# Altium schematic symbol library OSHW_LuxonisMaster_20201223.SchLib: 185 symbols (part 9 of 10)
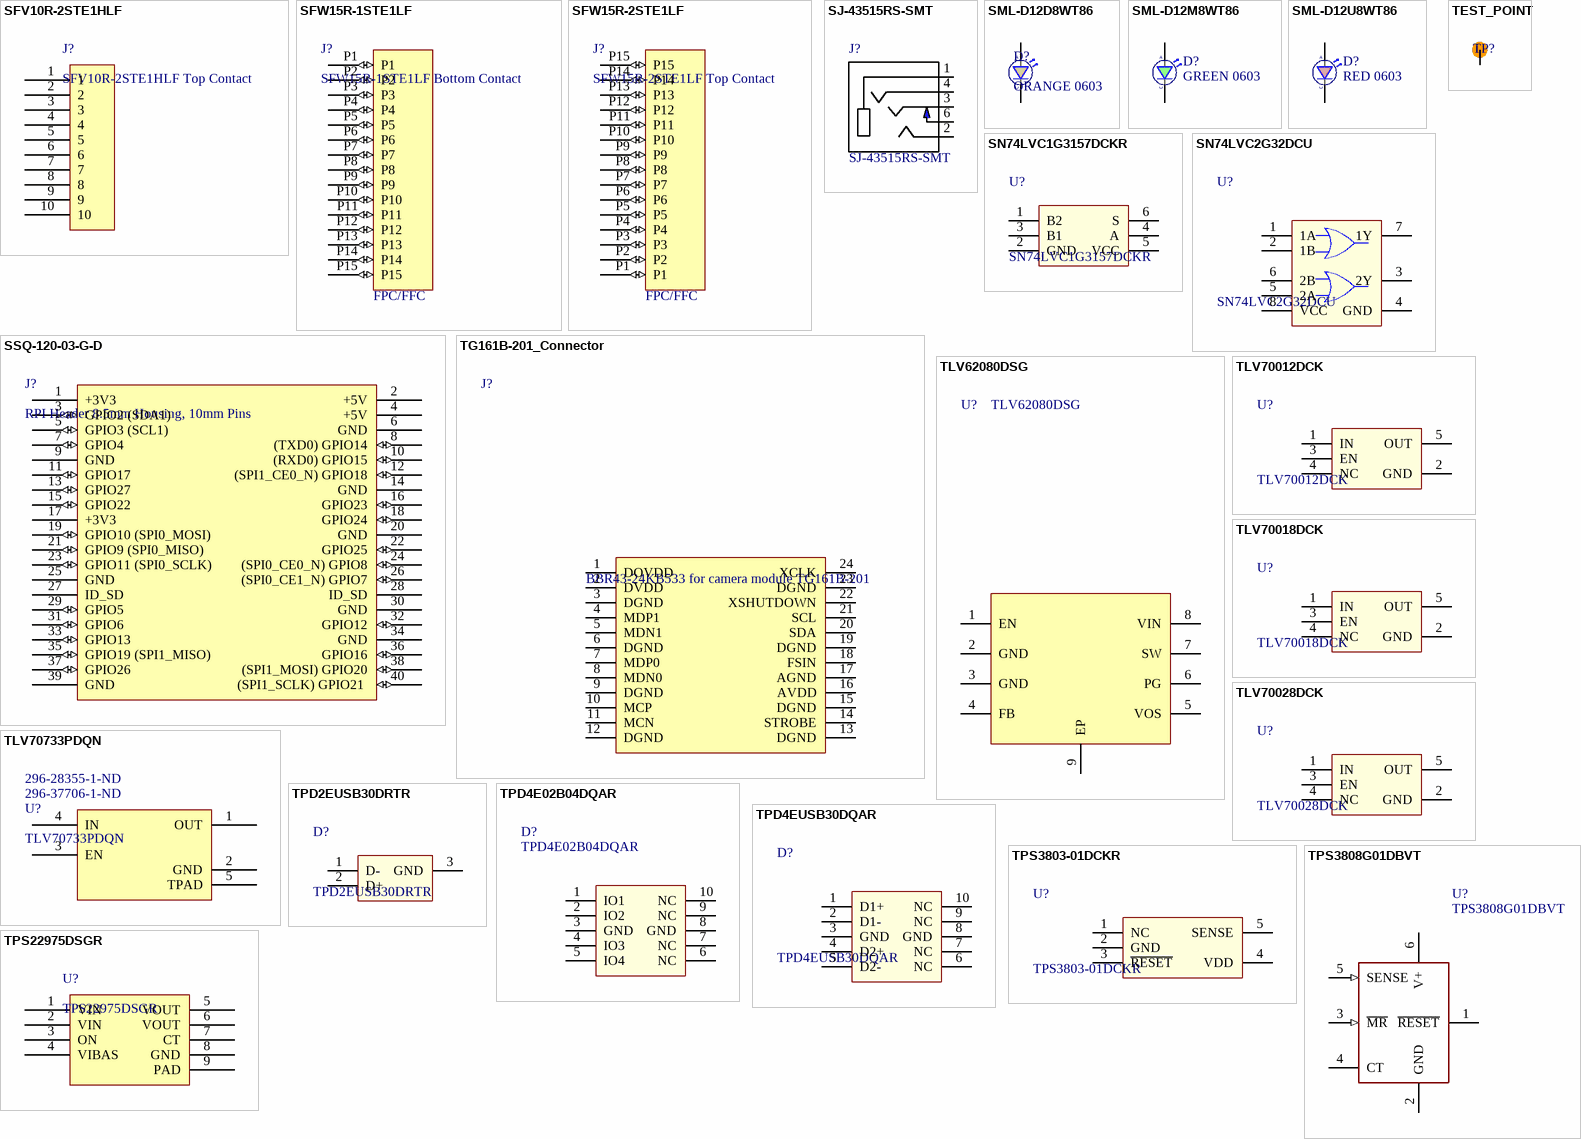
[diagram p15: symbols SFV10R-2STE1HLF to TPS22975DSGR]

## SN74LVC2G32DCU
designator U?
IC GATE OR 2CH 2-INP US8 OR Gate IC 2 Channel  8-VSSOP; Manufacturer 1: Texas Instruments; Manufacturer Part Number 1: SN74LVC2G32DCUR; MAN: TI; DIST: Farnell; DIST PN: 1236373RL; ICCO PN: MV235025; Min Supply Voltage: 1.65V; Max Supply Voltage: 5.5V; Quiescent Current: 10uA; Number of Inputs: 2; Number of Outputs: 1; Propagation Delay: 3.2ns; Low Level Output Current: 32mA; High Level Output Current: -32mA; MAN PN: SN74LVC2G32DCU; Supplier 1: Digi-Key; Stock 1: 17764; Pricing 1: 1=0.55000, 10=0.46700, 100=0.34900, 500=0.27418, 1000=0.21187 (USD); RoHS: Yes; Mount: Surface Mount; Case/Package: VSSOP; Number of Pins: 8; Weight: 0.000339oz; Contact Plating: Gold; Min Operating Temperature: -40°C; Max Operating Temperature: 125°C; Logic Function: OR; Packaging: Tape and Reel; Package Quantity: 1; Number of Gates: 2; Number of Input Lines: 2; Number of Output Lines: 1; Number of Circuits: 2; Number of Elements: 2; Number of Bits: 2; Turn-On Delay Time: 3.2ns; Output Current: 32mA; Max Output Current: 32mA; Termination: SMD/SMT; Radiation Hardening: No; Lead Free: Lead Free; REACH SVHC: No SVHC; ComponentLink1URL: https://datasheet.ciiva.com/6124/1768167-6124738.pdf?src-supplier=Farnell; ComponentLink1Description: https://datasheet.ciiva.com/6124/1768167-6124738.pdf?src-supplier=Farnell; ComponentLink2URL: https://datasheet.ciiva.com/34301/1046385-34301919.pdf?src-supplier=Jameco; ComponentLink2Description: https://datasheet.ciiva.com/34301/1046385-34301919.pdf?src-supplier=Jameco; ComponentLink3URL: https://datasheet.ciiva.com/7783/1768167-7783541.pdf?src-supplier=Element14; ComponentLink3Description: https://datasheet.ciiva.com/7783/1768167-7783541.pdf?src-supplier=Element14; ComponentLink4URL: https://datasheet.ciiva.com/1864/sn74lvc2g32-1864998.pdf?src-supplier=Digi-Key; ComponentLink4Description: https://datasheet.ciiva.com/1864/sn74lvc2g32-1864998.pdf?src-supplier=Digi-Key; ComponentLink5URL: https://datasheet.ciiva.com/1864/sn74lvc2g32-1864999.pdf?src-supplier=Digi-Key; ComponentLink5Description: https://datasheet.ciiva.com/1864/sn74lvc2g32-1864999.pdf?src-supplier=Digi-Key; ComponentLink6URL: https://datasheet.ciiva.com/46383/1849838-46383207.pdf?src-supplier=Element14; ComponentLink6Description: https://datasheet.ciiva.com/46383/1849838-46383207.pdf?src-supplier=Element14; ComponentLink7URL: https://datasheet.ciiva.com/1865/sn74lvc2g32-1865000.pdf?src-supplier=Digi-Key; ComponentLink7Description: https://datasheet.ciiva.com/1865/sn74lvc2g32-1865000.pdf?src-supplier=Digi-Key; ComponentLink8URL: https://datasheet.ciiva.com/26218/sn74lvc2g32-26218505.pdf?src-supplier=Avnet+Europe; ComponentLink8Description: https://datasheet.ciiva.com/26218/sn74lvc2g32-26218505.pdf?src-supplier=Avnet+Europe; ComponentLink9URL: https://datasheet.ciiva.com/14290/sn74lvc2g32-14290684.pdf?src-supplier=Avnet; ComponentLink9Description: https://datasheet.ciiva.com/14290/sn74lvc2g32-14290684.pdf?src-supplier=Avnet; ComponentLink10URL: https://datasheet.ciiva.com/46439/1849838-46439196.pdf?src-supplier=Element14; ComponentLink10Description: https://datasheet.ciiva.com/46439/1849838-46439196.pdf?src-supplier=Element14; ComponentLink11URL: https://datasheet.ciiva.com/14290/sn74lvc2g32-14290687.pdf?src-supplier=Avnet; ComponentLink11Description: https://datasheet.ciiva.com/14290/sn74lvc2g32-14290687.pdf?src-supplier=Avnet; Supplier Part Number 1: 296-13268-1-ND
footprint DCU8-10X50
pins: 1 1A, 2 1B, 3 2Y, 4 GND, 5 2A, 6 2B, 7 1Y, 8 VCC

## SSQ-120-03-G-D
designator J?, comment RPI Header 8.5mm Housing, 10mm Pins
CONN RCPT .100" 40POS DUAL GOLD; Manufacturer 1: Samtec; Manufacturer Part Number 1: SSQ-120-03-G-D; Number of Contacts: 40; Gender: Female; Connector Type: Receptacle,Socket; Max Current Rating: 7.6A; Contact Resistance: 10mR; Max Voltage Rating (AC): 550V; Pitch: 2.54mm; Row Spacing: 0.1inch; Supplier 1: Newark; Stock 1: 108; Pricing 1: 1=6.51000, 10=6.10000, 100=5.15000, 500=4.34000, 1000=3.80000 (USD); RoHS: Yes; Mount: Through Hole; Contact Plating: Gold; Color: Black; Contact Material: Bronze; Housing Color: Black; Housing Material: Polymer; Min Operating Temperature: -55°C; Max Operating Temperature: 125°C; Number of Rows: 2; Termination: Solder; Packaging: Bulk; Number of Positions: 40; Orientation: Straight; Length: 51.31mm; Width: 4.95mm; Depth: 4.95mm; Radiation Hardening: No; Lead Free: Lead Free; ComponentLink1URL: https://datasheet.ciiva.com/749/ssq-1xx-xx-xxx-x-xx-xxx-xx-x-mkt-749217.pdf?src-supplier=Digi-Key; ComponentLink1Description: https://datasheet.ciiva.com/749/ssq-1xx-xx-xxx-x-xx-xxx-xx-x-mkt-749217.pdf?src-supplier=Digi-Key; ComponentLink2URL: https://datasheet.ciiva.com/48578/38882004795544800ssq-th-48578237.pdf?src-supplier=Onlinecomponents.com; ComponentLink2Description: https://datasheet.ciiva.com/48578/38882004795544800ssq-th-48578237.pdf?src-supplier=Onlinecomponents.com; Supplier 2: Mouser; Supplier 3: Samtec; Supplier Part Number 1: 11P8662; Supplier Part Number 2: 200-SSQ12003GD; Supplier Part Number 3: SSQ-120-03-G-D
footprint RPI_HDR_40p_8.5mm_10mm (RPI Header / 40pins / 8.5mm housing, / 10mm pin)
pins: 1 +3V3 (power), 2 +5V (power), 3 GPIO2 (SDA1) (io) "I2C SDA1 ALT0", 4 +5V (power), 5 GPIO3 (SCL1) (io) "I2C SDA1 ALT0", 6 GND, 7 GPIO4 (io), 8 (TXD0) GPIO14 (io) "TXD0 ALT0", 9 GND, 10 (RXD0) GPIO15 (io) "RXD0 ALT0", 11 GPIO17 (io), 12 (SPI1_CE0_N) GPIO18 (io) "SPI1_CE0_N ALT4", 13 GPIO27 (io), 14 GND, 15 GPIO22 (io), 16 GPIO23 (io), 17 +3V3 (power), 18 GPIO24 (io), 19 GPIO10 (SPI0_MOSI) (io) "SPI0_MOSI ALT0", 20 GND, 21 GPIO9 (SPI0_MISO) (io) "SPI0_MISO ALT0", 22 GPIO25 (io), 23 GPIO11 (SPI0_SCLK) (io) "SPI0_SCLK ALT0", 24 (SPI0_CE0_N) GPIO8 (io) "SPI0_CE0_N ALT0", 25 GND, 26 (SPI0_CE1_N) GPIO7 (io) "SPI0_CE1_N ALT0", 27 ID_SD, 28 ID_SD, 29 GPIO5 (io), 30 GND, 31 GPIO6 (io), 32 GPIO12 (io), 33 GPIO13 (io), 34 GND, 35 GPIO19 (SPI1_MISO) (io) "SPI1_MISO ALT4", 36 GPIO16 (io), 37 GPIO26 (io), 38 (SPI1_MOSI) GPIO20 (io) "SPI1_MOSI ALT4", 39 GND, 40 (SPI1_SCLK) GPIO21  (io) "SPI1_SCLK ALT4"

## TEST_POINT
designator TP?  (no BOM)
footprint TP075_150_NS (0.75mm dia pad, 1.5mm dia clearance, no silk screen)
footprint TP075_200_NS (0.75mm dia pad, 2mm dia clearance, no silk screen)
footprint TP100_150_NS (1mm dia pad, 1.5mm clearance, no silk screen)
footprint TP100_200_NS (1mm dia pad, 2mm dia clearance, no silk screen)
pins: 1

## TG161B-201_Connector
designator J?, comment BBR43-24KB533 for camera module TG161B-201
CONN 24 way, 2 row board to board connector SMD; Manufacturer 1: ACON; RoHS: Yes; Manufacturer Part Number 1: BBR43-24KB533; Supplier 1: Digsemi; Supplier Part Number 1: BBR43-24KB533
footprint TG161B-201
footprint TG161B-201_HD (IPC High density version)
footprint TG161B-201 / AN01V32 - Board Wrap (7mm setback) MinPads (SMT connector: BBR43-24KB533, 7mm camera setback)
pins: 1 DOVDD, 2 DVDD, 3 DGND, 4 MDP1, 5 MDN1, 6 DGND, 7 MDP0, 8 MDN0, 9 DGND, 10 MCP, 11 MCN, 12 DGND, 13 DGND, 14 STROBE, 15 DGND, 16 AVDD, 17 AGND, 18 FSIN, 19 DGND, 20 SDA, 21 SCL, 22 XSHUTDOWN, 23 DGND, 24 XCLK

## TLV62080DSG
designator U?
IC REG BUCK ADJ 1.2A SYNC 8WSON; Manufacturer 1: Texas Instruments; Manufacturer Part Number 1: TLV62080DSGR; Quiescent Current: 30uA; Switching Frequency: 2MHz; Output Voltage: 4V; Number of Outputs: 1; Min Input Voltage: 2.5V; Max Input Voltage: 5.5V; Min Output Voltage: 500mV; Synchronous Rectifier: Yes; Output Type: Adjustable; Output Configuration: Positive; Supplier 1: Digi-Key; Stock 1: 93781; Pricing 1: 1=1.35000, 10=1.20300, 100=0.93810, 500=0.77498, 1000=0.61182 (USD); RoHS: Yes; Mount: Surface Mount; Number of Pins: 8; Contact Plating: Gold; Min Operating Temperature: -40°C; Max Operating Temperature: 125°C; Output Current: 1.2A; Packaging: Tape and Reel; Package Quantity: 3000; Nominal Supply Current: 30uA; Min Supply Voltage: 2.5V; Max Output Current: 1.2A; Max Output Voltage: 4V; Lead Free: Lead Free; ComponentLink1URL: https://datasheet.ciiva.com/6604/tlv62080-6604087.pdf?src-supplier=Digi-Key; ComponentLink1Description: https://datasheet.ciiva.com/6604/tlv62080-6604087.pdf?src-supplier=Digi-Key; ComponentLink2URL: https://datasheet.ciiva.com/14378/tlv62080-14378282.pdf?src-supplier=Avnet; ComponentLink2Description: https://datasheet.ciiva.com/14378/tlv62080-14378282.pdf?src-supplier=Avnet; Supplier 2: Digi-Key; Manufacturer 2: Texas Instruments; Manufacturer Part Number 2: TLV62080DSGT; Stock 2: 6366; Pricing 2: 1=1.48000, 10=1.32700, 100=1.06620 (USD); Radiation Hardening: No; REACH SVHC: No SVHC; ComponentLink3URL: https://datasheet.ciiva.com/29732/tlv62080-29732147.pdf?src-supplier=Digi-Key; ComponentLink3Description: https://datasheet.ciiva.com/29732/tlv62080-29732147.pdf?src-supplier=Digi-Key; ComponentLink4URL: https://datasheet.ciiva.com/29732/tlv62080-29732156.pdf?src-supplier=Digi-Key; ComponentLink4Description: https://datasheet.ciiva.com/29732/tlv62080-29732156.pdf?src-supplier=Digi-Key; ComponentLink5URL: https://datasheet.ciiva.com/29732/tlv62080-29732151.pdf?src-supplier=Digi-Key; ComponentLink5Description: https://datasheet.ciiva.com/29732/tlv62080-29732151.pdf?src-supplier=Digi-Key; ComponentLink6URL: https://datasheet.ciiva.com/14378/tlv62080-14378283.pdf?src-supplier=Avnet; ComponentLink6Description: https://datasheet.ciiva.com/14378/tlv62080-14378283.pdf?src-supplier=Avnet; ComponentLink7URL: https://datasheet.ciiva.com/26104/tlv62080-26104460.pdf?src-supplier=Avnet+Europe; ComponentLink7Description: https://datasheet.ciiva.com/26104/tlv62080-26104460.pdf?src-supplier=Avnet+Europe; Supplier Part Number 1: 296-39270-1-ND; Supplier Part Number 2: 296-36759-1-ND
footprint TLV62080DSG (WSON-8, 2.1mm x 2.1mm x 0.8mm)
pins: 1 EN, 2 GND, 3 GND, 4 FB, 5 VOS, 6 PG, 7 SW, 8 VIN, 9 EP

## TLV70012DCK
designator U?
IC REG LINEAR 1.2V 200MA SC70-5; Manufacturer 1: Texas Instruments; Manufacturer Part Number 1: TLV70012DCKR; Max Power Dissipation: 320mW; Number of Outputs: 1; Dropout Voltage: 175mV; Max Input Voltage: 5.5V; Min Input Voltage: 2V; Min Current Limit: 220mA; Polarity: Positive; Accuracy: 2%; Quiescent Current: 30uA; Output Type: Fixed; Supplier 1: Digi-Key; Stock 1: 8389; Pricing 1: 1=0.48000, 10=0.40900, 100=0.30570, 500=0.24020, 1000=0.18561 (USD); RoHS: Yes; Case/Package: SC; Number of Pins: 5; Contact Plating: Gold; Min Operating Temperature: -40°C; Max Operating Temperature: 125°C; Output Voltage: 1.2V; Packaging: Tape and Reel; Output Current: 200mA; Package Quantity: 1; Max Output Current: 200mA; Number of Regulators: 1; Power Dissipation: 320mW; Min Output Voltage: 1.2V; Output Voltage Accuracy: 2%; Max Output Voltage: 1.2V; Nominal Output Voltage: 1.2V; Radiation Hardening: No; Lead Free: Lead Free; REACH SVHC: No SVHC; ComponentLink1URL: https://datasheet.ciiva.com/26909/tlv70012dckr-26909420.pdf?src-supplier=IIIC; ComponentLink1Description: https://datasheet.ciiva.com/26909/tlv70012dckr-26909420.pdf?src-supplier=IIIC; ComponentLink2URL: https://datasheet.ciiva.com/46448/1836520-46448747.pdf?src-supplier=Element14; ComponentLink2Description: https://datasheet.ciiva.com/46448/1836520-46448747.pdf?src-supplier=Element14; Supplier Part Number 1: 296-27438-1-ND; Supplier 2: TI store; Manufacturer 2: Texas Instruments; Manufacturer Part Number 2: TLV70012DCKT; Stock 2: 250; Pricing 2: 1=0.43000, 10=0.38000, 25=0.35000, 100=0.30000, 250=0.27000, 500=0.21000, 750=0.16000, 1000=0.14000 (USD); ComponentLink3URL: http://components.arrow.com/part/dataview/48874348S9524109N7713?src-supplier=Arrow; ComponentLink3Description: http://components.arrow.com/part/dataview/48874348S9524109N7713?src-supplier=Arrow; ComponentLink4URL: http://components.arrow.com/part/dataview/0323_02210905?src-supplier=Arrow+Europe; ComponentLink4Description: http://components.arrow.com/part/dataview/0323_02210905?src-supplier=Arrow+Europe; ComponentLink5URL: http://www.ti.com/general/docs/lit/getliterature.tsp?genericPartNumber=TLV700&&fileType=pdf&src-supplier=Avnet; ComponentLink5Description: http://www.ti.com/general/docs/lit/getliterature.tsp?genericPartNumber=TLV700&&fileType=pdf&src-supplier=Avnet; ComponentLink6URL: http://focus.ti.com/lit/ds/symlink/tlv70033.pdf?src-supplier=Avnet; ComponentLink6Description: http://focus.ti.com/lit/ds/symlink/tlv70033.pdf?src-supplier=Avnet; ComponentLink7URL: http://www.ti.com/lit/ds/slvsa00e/slvsa00e.pdf?src-supplier=Digi-Key; ComponentLink7Description: http://www.ti.com/lit/ds/slvsa00e/slvsa00e.pdf?src-supplier=Digi-Key; ComponentLink8URL: http://www.ti.com/litv/slvsa00d?src-supplier=Mouser; ComponentLink8Description: http://www.ti.com/litv/slvsa00d?src-supplier=Mouser; Supplier Part Number 2: TLV70012DCKT
footprint TLV70012DCK (SC70-5 1.1mm)
pins: 1 IN, 2 GND, 3 EN, 4 NC, 5 OUT

## TLV70018DCK
designator U?
IC REG LINEAR 1.8V 200MA SC70-5 Linear Voltage Regulator IC  1 Output  200mA SC-70-5; Manufacturer 1: Texas Instruments; Manufacturer Part Number 1: TLV70018DCKR; Max Power Dissipation: 320mW; Number of Outputs: 1; Dropout Voltage: 175mV; Max Input Voltage: 5.5V; Min Input Voltage: 2V; Min Current Limit: 220mA; Polarity: Positive; Output Voltage Accuracy: 2%; Quiescent Current: 30uA; Output Type: Fixed; Nominal Supply Current: 31uA; Supplier 1: Digi-Key; Stock 1: 63905; Pricing 1: 1=0.48000, 10=0.40900, 100=0.30570, 500=0.24020, 1000=0.18561 (USD); RoHS: Yes; Case/Package: SC; Number of Pins: 5; Contact Plating: Gold; Min Operating Temperature: -40°C; Max Operating Temperature: 125°C; Packaging: Tape and Reel; Package Quantity: 1; Output Voltage: 1.8V; Output Current: 200mA; Max Output Current: 200mA; Number of Regulators: 1; Power Dissipation: 320mW; Nominal Output Voltage: 1.8V; Accuracy: 2%; Max Output Voltage: 1.8V; Min Output Voltage: 1.8V; REACH SVHC: No SVHC; Lead Free: Lead Free; ComponentLink1URL: https://datasheet.ciiva.com/41462/001014631-da-01-en-ic-reg-ldo-1-8v-0-tlv70018dckr-sot-5-tid-41462480.pdf?src-supplier=Conrad; ComponentLink1Description: https://datasheet.ciiva.com/41462/001014631-da-01-en-ic-reg-ldo-1-8v-0-tlv70018dckr-sot-5-tid-41462480.pdf?src-supplier=Conrad; Supplier 2: Digi-Key; Manufacturer 2: Texas Instruments; Manufacturer Part Number 2: TLV70018DCKT; Stock 2: 13188; Pricing 2: 1=0.55000, 10=0.46700, 100=0.34900 (USD); Power Rating: 320mW; Length: 2.15mm; Height: 1mm; Width: 1.4mm; Radiation Hardening: No; ComponentLink2URL: https://datasheet.ciiva.com/22700/1882059-22700171.pdf?src-supplier=Element14; ComponentLink2Description: https://datasheet.ciiva.com/22700/1882059-22700171.pdf?src-supplier=Element14; ComponentLink3URL: https://datasheet.ciiva.com/14149/tlv700-eng-ds-14149837.pdf?src-supplier=Distrelec; ComponentLink3Description: https://datasheet.ciiva.com/14149/tlv700-eng-ds-14149837.pdf?src-supplier=Distrelec; ComponentLink4URL: https://datasheet.ciiva.com/7992/1882059-7992894.pdf?src-supplier=Element14; ComponentLink4Description: https://datasheet.ciiva.com/7992/1882059-7992894.pdf?src-supplier=Element14; Supplier Part Number 1: 296-32409-1-ND; Supplier Part Number 2: 296-25269-1-ND
footprint TLV70018DCK (SC70-5 1.1mm)
pins: 1 IN, 2 GND, 3 EN, 4 NC, 5 OUT

## TLV70028DCK
designator U?
IC REG LINEAR 2.8V 200MA SC70-5 Linear Voltage Regulator IC  1 Output  200mA SC-70-5; Manufacturer 1: Texas Instruments; Manufacturer Part Number 1: TLV70028DCKT; Dropout Voltage: 175mV; Number of Outputs: 1; Max Power Dissipation: 320mW; Max Input Voltage: 5.5V; Min Input Voltage: 2V; Min Current Limit: 220mA; Polarity: Positive; Quiescent Current: 30uA; Accuracy: 2%; Output Type: Fixed; Nominal Supply Current: 31uA; Stock 1: 832; Pricing 1: 1=0.55000, 10=0.46700, 100=0.34900 (USD); RoHS: Yes; Case/Package: SC; Number of Pins: 5; Contact Plating: Gold; Min Operating Temperature: -40°C; Max Operating Temperature: 125°C; Package Quantity: 1; Packaging: Tape and Reel; Output Current: 200mA; Output Voltage: 2.8V; Max Output Current: 200mA; Number of Regulators: 1; Power Dissipation: 320mW; Min Output Voltage: 2.8V; Output Voltage Accuracy: 2%; Max Output Voltage: 2.8V; Max Supply Voltage: 5.5V; Min Supply Voltage: 2V; Nominal Output Voltage: 2.8V; Power Rating: 320mW; Termination: SMD/SMT; Length: 2.15mm; Height: 1mm; Width: 1.4mm; Radiation Hardening: No; Lead Free: Lead Free; REACH SVHC: No SVHC; ComponentLink1URL: https://datasheet.ciiva.com/14149/tlv700-eng-ds-14149840.pdf?src-supplier=Distrelec; ComponentLink1Description: https://datasheet.ciiva.com/14149/tlv700-eng-ds-14149840.pdf?src-supplier=Distrelec; ComponentLink2URL: https://datasheet.ciiva.com/22700/1882059-22700172.pdf?src-supplier=Element14; ComponentLink2Description: https://datasheet.ciiva.com/22700/1882059-22700172.pdf?src-supplier=Element14; Manufacturer 2: Texas Instruments; Manufacturer Part Number 2: TLV70028DCKR; Stock 2: 30013; Pricing 2: 1=0.48000, 10=0.40900, 100=0.30570, 500=0.24020, 1000=0.18561 (USD); ComponentLink3URL: http://components.arrow.com/part/dataview/0323_00585634?src-supplier=Arrow+Europe; ComponentLink3Description: http://components.arrow.com/part/dataview/0323_00585634?src-supplier=Arrow+Europe; ComponentLink4URL: http://focus.ti.com/lit/ds/symlink/tlv70033.pdf?src-supplier=Avnet+Europe; ComponentLink4Description: http://focus.ti.com/lit/ds/symlink/tlv70033.pdf?src-supplier=Avnet+Europe; ComponentLink5URL: http://www.ti.com/lit/ds/slvsa00d/slvsa00d.pdf?src-supplier=Digi-Key; ComponentLink5Description: http://www.ti.com/lit/ds/slvsa00d/slvsa00d.pdf?src-supplier=Digi-Key; ComponentLink6URL: http://www.ti.com/lit/pdf/slyy050?src-supplier=Digi-Key; ComponentLink6Description: http://www.ti.com/lit/pdf/slyy050?src-supplier=Digi-Key; ComponentLink7URL: http://www.ti.com/general/docs/lit/getliterature.tsp?genericPartNumber=TLV700&&fileType=pdf&src-supplier=Avnet+Asia; ComponentLink7Description: http://www.ti.com/general/docs/lit/getliterature.tsp?genericPartNumber=TLV700&&fileType=pdf&src-supplier=Avnet+Asia; ComponentLink8URL: http://www.ti.com/general/docs/lit/getliterature.tsp?genericPartNumber=TLV700&&fileType=pdf&src-supplier=Avnet; ComponentLink8Description: http://www.ti.com/general/docs/lit/getliterature.tsp?genericPartNumber=TLV700&&fileType=pdf&src-supplier=Avnet; ComponentLink9URL: http://components.arrow.com/part/dataview/48329233S8322732N7713?src-supplier=Arrow; ComponentLink9Description: http://components.arrow.com/part/dataview/48329233S8322732N7713?src-supplier=Arrow; ComponentLink10URL: http://www.ti.com/litv/slvsa00d?src-supplier=Mouser; ComponentLink10Description: http://www.ti.com/litv/slvsa00d?src-supplier=Mouser; ComponentLink11URL: http://www.ti.com/lit/ds/slvsa00e/slvsa00e.pdf?src-supplier=Digi-Key; ComponentLink11Description: http://www.ti.com/lit/ds/slvsa00e/slvsa00e.pdf?src-supplier=Digi-Key; Supplier 1: Digi-Key; Supplier 2: Digi-Key; Supplier Part Number 1: 296-39279-1-ND; Supplier Part Number 2: 296-25271-1-ND
footprint TLV70028DCK (SC70-5 1.1mm)
pins: 1 IN, 2 GND, 3 EN, 4 NC, 5 OUT

## TLV70733PDQN
designator U?  Supplier Part Number 1: 296-37706-1-ND  Supplier Part Number 2: 296-28355-1-ND
IC REG LINEAR 3.3V 200MA 4X2SON Linear Voltage Regulator IC  1 Output  200mA 4-X2SON (1x1); Manufacturer 1: Texas Instruments; Manufacturer Part Number 1: TLV70710DQN; Output Voltage: 1V; Number of Regulators: 1; Min Current Limit: 240mA; Quiescent Current: 25uA; Dropout Voltage: 250mV; RoHS: Yes; Mount: Surface Mount; Min Operating Temperature: -40°C; Max Operating Temperature: 125°C; Output Current: 200mA; Packaging: Tape and Reel; Package Quantity: 3000; Lead Free: Lead Free; ComponentLink1URL: http://www.ti.com/lit/gpn/tlv707?src-supplier=Mouser; ComponentLink1Description: http://www.ti.com/lit/gpn/tlv707?src-supplier=Mouser; ComponentLink2URL: http://www.ti.com/lit/ds/symlink/tlv707.pdf?src-supplier=Digi-Key; ComponentLink2Description: http://www.ti.com/lit/ds/symlink/tlv707.pdf?src-supplier=Digi-Key; Supplier 1: Digi-Key; Supplier 2: Digi-Key
footprint TLV70733PDQN (DFN, 4-Leads, Body 1.00x1.00mm, Pitch 0.65mm, IPC High Density)
pins: 1 OUT (power), 2 GND (power), 3 EN (power), 4 IN (power), 5 TPAD

## TPD2EUSB30DRTR
designator D?
TVS DIODE 5.5V 8V SOT3 8V Clamp 1A (8/20µs) Ipp Tvs Diode Surface Mount SOT-3; Manufacturer 1: Texas Instruments; MAN: TI; MAN PN: TPD2EUSB30ADRTR; ICCO PN: MV181005; DIST: Farnell; DIST PN: 1869645; Direction: Unidirectional,Bidirectional; Capacitance: 0.8pF; Number of Bidirectional Channels: 2; Min Breakdown Voltage: 9V; Peak Pulse Power: 45W; Power Line Protection: Yes; Test Current: 1mA; Element Configuration: Dual; Interface: USB; Supplier 1: Digi-Key; Manufacturer Part Number 1: TPD2EUSB30DRTR; Stock 1: 411977; Pricing 1: 1=0.58000, 10=0.49400, 100=0.36920, 500=0.29004, 1000=0.22413 (USD); RoHS: Yes; Case/Package: SOT; Number of Pins: 3; Min Operating Temperature: -40°C; Max Operating Temperature: 85°C; Packaging: Tape and Reel; Package Quantity: 1; Reverse Standoff Voltage: 5.5V; Clamping Voltage: 8V; Breakdown Voltage: 9V; Number of Channels: 2; Working Voltage: 5.5V; ESD Protection: Yes; Peak Pulse Current: 1A; Length: 1mm; Height: 0.45mm; Depth: 0.8mm; Width: 0.85mm; Radiation Hardening: No; REACH SVHC: No SVHC; Lead Free: Lead Free; ComponentLink1URL: https://datasheet.ciiva.com/1611/tpd2eusb30-1611602.pdf?src-supplier=Newark; ComponentLink1Description: https://datasheet.ciiva.com/1611/tpd2eusb30-1611602.pdf?src-supplier=Newark; ComponentLink2URL: https://datasheet.ciiva.com/15134/getdatasheetpartid-202713-15134479.pdf?src-supplier=Verical; ComponentLink2Description: https://datasheet.ciiva.com/15134/getdatasheetpartid-202713-15134479.pdf?src-supplier=Verical; ComponentLink3URL: https://datasheet.ciiva.com/26787/tpd2eusb30drtr-26787652.pdf?src-supplier=IIIC; ComponentLink3Description: https://datasheet.ciiva.com/26787/tpd2eusb30drtr-26787652.pdf?src-supplier=IIIC; ComponentLink4URL: https://datasheet.ciiva.com/353/tpd2eusb30-353272.pdf?src-supplier=Digi-Key; ComponentLink4Description: https://datasheet.ciiva.com/353/tpd2eusb30-353272.pdf?src-supplier=Digi-Key; ComponentLink5URL: https://datasheet.ciiva.com/1504/1882087-1504248.pdf?src-supplier=Element14; ComponentLink5Description: https://datasheet.ciiva.com/1504/1882087-1504248.pdf?src-supplier=Element14; ComponentLink6URL: https://datasheet.ciiva.com/353/tpd2eusb30-353273.pdf?src-supplier=Digi-Key; ComponentLink6Description: https://datasheet.ciiva.com/353/tpd2eusb30-353273.pdf?src-supplier=Digi-Key; ComponentLink7URL: https://datasheet.ciiva.com/25956/tpd4eusb30-25956841.pdf?src-supplier=Avnet+Europe; ComponentLink7Description: https://datasheet.ciiva.com/25956/tpd4eusb30-25956841.pdf?src-supplier=Avnet+Europe; ComponentLink8URL: https://datasheet.ciiva.com/353/tpd2eusb30-353274.pdf?src-supplier=Digi-Key; ComponentLink8Description: https://datasheet.ciiva.com/353/tpd2eusb30-353274.pdf?src-supplier=Digi-Key; Supplier Part Number 1: 296-25509-1-ND
footprint SOT-3
pins: 1 D-, 2 D+, 3 GND

## TPD4E02B04DQAR
designator D?
TVS DIODE 3.6V 8.8V 10USON 8.8V (Typ) Clamp 5A (8/20µs) Ipp Tvs Diode Surface Mount 10-USON (2.5x1); Manufacturer 1: Texas Instruments; Number of Bidirectional Channels: 4; Min Breakdown Voltage: 5.5V; Peak Pulse Power: 17W; Power Line Protection: No; Interface: USB,HDMI; Supplier 1: Digi-Key; Manufacturer Part Number 1: TPD4E02B04DQAR; Stock 1: 25615; Pricing 1: 1=0.69000, 10=0.60800, 100=0.46650, 500=0.36874, 1000=0.29499 (USD); RoHS: Yes; Mount: Surface Mount; Number of Pins: 10; Min Operating Temperature: -40°C; Max Operating Temperature: 125°C; Packaging: Cut Tape; Reverse Standoff Voltage: 3.6V; Clamping Voltage: 8.8V; Operating Supply Voltage: 3.6V; Peak Pulse Current: 5A; Number of Channels: 4; Composition: Zener; REACH SVHC: No SVHC; Lead Free: Lead Free; ComponentLink1URL: http://www.ti.com/general/docs/lit/getliterature.tsp?genericPartNumber=TPD4E02B04&amp;&amp;fileType=pdf&src-supplier=Element14; ComponentLink1Description: http://www.ti.com/general/docs/lit/getliterature.tsp?genericPartNumber=TPD4E02B04&amp;&amp;fileType=pdf&src-supplier=Element14; ComponentLink2URL: http://www.ti.com/lit/ds/symlink/tpd4e02b04.pdf?src-supplier=Farnell; ComponentLink2Description: http://www.ti.com/lit/ds/symlink/tpd4e02b04.pdf?src-supplier=Farnell; ComponentLink3URL: http://www.ti.com/lit/ds/symlink/tpd4e02b04.pdf?src-supplier=Newark; ComponentLink3Description: http://www.ti.com/lit/ds/symlink/tpd4e02b04.pdf?src-supplier=Newark; ComponentLink4URL: http://www.ti.com/lit/ds/symlink/tpd4e02b04.pdf?src-supplier=Digi-Key; ComponentLink4Description: http://www.ti.com/lit/ds/symlink/tpd4e02b04.pdf?src-supplier=Digi-Key; Supplier Part Number 1: 296-43875-1-ND
footprint TPD4E02B04DQAR
pins: 1 IO1, 2 IO2, 3 GND, 4 IO3, 5 IO4, 6 NC, 7 NC, 8 GND, 9 NC, 10 NC

## TPD4EUSB30DQAR
designator D?
TVS DIODE 5.5V 8V 10SON 8V Clamp 1A (8/20µs) Ipp Tvs Diode Surface Mount 10-USON (2.5x1); Manufacturer 1: Texas Instruments; Direction: Unidirectional; Capacitance: 0.8pF; Number of Bidirectional Channels: 4; Peak Pulse Power: 45W; Power Line Protection: Yes; Breakdown Voltage: 7V; Interface: USB; Data Rate: 6Gbps; Current Rating: 5A; Supplier 1: Digi-Key; Manufacturer Part Number 1: TPD4EUSB30DQAR; Stock 1: 82778; Pricing 1: 1=0.81000, 10=0.71400, 100=0.54720, 500=0.43260, 1000=0.34608 (USD); RoHS: Yes; Number of Pins: 10; Min Operating Temperature: -40°C; Max Operating Temperature: 85°C; Package Quantity: 1; Packaging: Tape and Reel; Reverse Standoff Voltage: 5.5V; Min Breakdown Voltage: 8V; Clamping Voltage: 8V; Number of Channels: 4; Working Voltage: 5.5V; ESD Protection: Yes; Peak Pulse Current: 1A; Termination: SMD/SMT; Length: 2.5mm; Height: 0.5mm; Width: 1.1mm; Depth: 1mm; Radiation Hardening: No; REACH SVHC: No SVHC; Lead Free: Lead Free; ComponentLink1URL: https://datasheet.ciiva.com/339/tpd4eusb30-339202.pdf?src-supplier=Digi-Key; ComponentLink1Description: https://datasheet.ciiva.com/339/tpd4eusb30-339202.pdf?src-supplier=Digi-Key; ComponentLink2URL: https://datasheet.ciiva.com/15134/getdatasheetpartid-299321-15134669.pdf?src-supplier=Verical; ComponentLink2Description: https://datasheet.ciiva.com/15134/getdatasheetpartid-299321-15134669.pdf?src-supplier=Verical; ComponentLink3URL: https://datasheet.ciiva.com/41659/1634000-41659268.pdf?src-supplier=Farnell; ComponentLink3Description: https://datasheet.ciiva.com/41659/1634000-41659268.pdf?src-supplier=Farnell; ComponentLink4URL: https://datasheet.ciiva.com/22621/1882087-22621482.pdf?src-supplier=Element14; ComponentLink4Description: https://datasheet.ciiva.com/22621/1882087-22621482.pdf?src-supplier=Element14; ComponentLink5URL: https://datasheet.ciiva.com/339/tpd4eusb30-339203.pdf?src-supplier=Digi-Key; ComponentLink5Description: https://datasheet.ciiva.com/339/tpd4eusb30-339203.pdf?src-supplier=Digi-Key; ComponentLink6URL: https://datasheet.ciiva.com/339/tpd4eusb30-339204.pdf?src-supplier=Digi-Key; ComponentLink6Description: https://datasheet.ciiva.com/339/tpd4eusb30-339204.pdf?src-supplier=Digi-Key; ComponentLink7URL: https://datasheet.ciiva.com/1504/1882087-1504249.pdf?src-supplier=Element14; ComponentLink7Description: https://datasheet.ciiva.com/1504/1882087-1504249.pdf?src-supplier=Element14; Supplier Part Number 1: 296-28063-1-ND; Supplier 2: TI store; Supplier 3: Mouser; Supplier Part Number 2: TPD4EUSB30DQAR; Supplier Part Number 3: 595-TPD4EUSB30DQAR
footprint TPD4EUSB30DQAR
pins: 1 D1+, 2 D1-, 3 GND, 4 D2+, 5 D2-, 6 NC, 7 NC, 8 GND, 9 NC, 10 NC

## TPS3803-01DCKR
designator U?
IC VOLT DETECTOR ADJ/1.5V SC70-5 Supervisor Open Drain or Open Collector 1 Channel SC-70-5; Manufacturer 1: Texas Instruments; Max Supply Voltage: 6V; Min Supply Voltage: 1.3V; Max Power Dissipation: 321mW; Number of Voltages Monitored: 1; Reset: Active Low; Reset Timeout: 5us; Threshold Voltage: 1.226V; Operating Supply Current: 3uA; Reset Delay Time: 5.5us; Max Supply Current: 4uA; Watchdog Timer: No; Accuracy: 1.5%; Nominal Supply Current: 2uA; Max Output Current: 5mA; Supplier 1: Digi-Key; Manufacturer Part Number 1: TPS3803-01DCKR; Stock 1: 12274; Pricing 1: 1=0.92000, 10=0.80900, 100=0.62020, 500=0.49028, 1000=0.39222 (USD); RoHS: Yes; Case/Package: SC; Number of Pins: 5; Weight: 8.8E-05oz; Min Operating Temperature: -40°C; Max Operating Temperature: 85°C; Packaging: Tape and Reel; Package Quantity: 3000; Number of Monitored Inputs: 1; Power Dissipation: 321mW; Quiescent Current: 3uA; Termination: SMD/SMT; Length: 2mm; Height: 0.9mm; Width: 1.25mm; Radiation Hardening: No; REACH SVHC: No SVHC; Lead Free: Lead Free; ComponentLink1URL: https://datasheet.ciiva.com/5695/tps3803g15-5695797.pdf?src-supplier=Farnell; ComponentLink1Description: https://datasheet.ciiva.com/5695/tps3803g15-5695797.pdf?src-supplier=Farnell; ComponentLink2URL: https://datasheet.ciiva.com/7990/1835098-7990453.pdf?src-supplier=Element14; ComponentLink2Description: https://datasheet.ciiva.com/7990/1835098-7990453.pdf?src-supplier=Element14; ComponentLink3URL: https://datasheet.ciiva.com/46415/1716594-46415851.pdf?src-supplier=Element14; ComponentLink3Description: https://datasheet.ciiva.com/46415/1716594-46415851.pdf?src-supplier=Element14; ComponentLink4URL: https://datasheet.ciiva.com/14200/tps3805h33-14200781.pdf?src-supplier=Avnet; ComponentLink4Description: https://datasheet.ciiva.com/14200/tps3805h33-14200781.pdf?src-supplier=Avnet; ComponentLink5URL: https://datasheet.ciiva.com/26069/tps3805h33-26069837.pdf?src-supplier=Avnet+Europe; ComponentLink5Description: https://datasheet.ciiva.com/26069/tps3805h33-26069837.pdf?src-supplier=Avnet+Europe; ComponentLink6URL: https://datasheet.ciiva.com/1970/tps3803-01-1970439.pdf?src-supplier=Digi-Key; ComponentLink6Description: https://datasheet.ciiva.com/1970/tps3803-01-1970439.pdf?src-supplier=Digi-Key; ComponentLink7URL: https://datasheet.ciiva.com/1970/tps3803-01-1970441.pdf?src-supplier=Digi-Key; ComponentLink7Description: https://datasheet.ciiva.com/1970/tps3803-01-1970441.pdf?src-supplier=Digi-Key; ComponentLink8URL: https://datasheet.ciiva.com/1970/tps3803-01-1970440.pdf?src-supplier=Digi-Key; ComponentLink8Description: https://datasheet.ciiva.com/1970/tps3803-01-1970440.pdf?src-supplier=Digi-Key; ComponentLink9URL: https://datasheet.ciiva.com/16536/tps3805h33-16536319.pdf?src-supplier=Avnet+Asia; ComponentLink9Description: https://datasheet.ciiva.com/16536/tps3805h33-16536319.pdf?src-supplier=Avnet+Asia; Supplier Part Number 1: 296-13405-1-ND
footprint SC70-5
pins: 1 NC, 2 GND, 3 ~{RESET}, 4 VDD, 5 SENSE

## TPS3808G01DBVT
designator U?
IC VOLT SUPERVISOR ADJ SOT23-6 Supervisor Open Drain or Open Collector 1 Channel SOT-23-6; Manufacturer 1: Texas Instruments; Min Supply Voltage: 1.65V; Max Supply Voltage: 6.5V; Watchdog Timer: No; Min Input Voltage: 1.8V; Max Output Current: 5mA; Nominal Supply Current: 2.7uA; Number of Voltages Monitored: 1; Reset: Active Low; Operating Supply Current: 2.4uA; Threshold Voltage: 405mV; Supplier 1: Digi-Key; Manufacturer Part Number 1: TPS3808G01DBVT; Stock 1: 2849; Pricing 1: 1=2.09000, 10=1.87800, 100=1.50940 (USD); RoHS: Yes; Case/Package: SOT-23; Number of Pins: 6; Min Operating Temperature: -40°C; Max Operating Temperature: 125°C; Packaging: Tape and Reel; Package Quantity: 1; Max Input Voltage: 6.5V; Number of Elements: 1; Quiescent Current: 2.4uA; Termination: SMD/SMT; Length: 2.9mm; Height: 1.15mm; Width: 1.6mm; Radiation Hardening: No; REACH SVHC: No SVHC; Lead Free: Lead Free; ComponentLink1URL: https://datasheet.ciiva.com/27049/762419-27049847.pdf?src-supplier=Jameco; ComponentLink1Description: https://datasheet.ciiva.com/27049/762419-27049847.pdf?src-supplier=Jameco; ComponentLink2URL: https://datasheet.ciiva.com/15106/getdatasheetpartid-246337-15106031.pdf?src-supplier=Verical; ComponentLink2Description: https://datasheet.ciiva.com/15106/getdatasheetpartid-246337-15106031.pdf?src-supplier=Verical; ComponentLink3URL: https://datasheet.ciiva.com/6599/tps3808g01-6599413.pdf?src-supplier=Digi-Key; ComponentLink3Description: https://datasheet.ciiva.com/6599/tps3808g01-6599413.pdf?src-supplier=Digi-Key; ComponentLink4URL: https://datasheet.ciiva.com/7990/1862365-7990459.pdf?src-supplier=Element14; ComponentLink4Description: https://datasheet.ciiva.com/7990/1862365-7990459.pdf?src-supplier=Element14; ComponentLink5URL: https://datasheet.ciiva.com/14207/tps3808g01-14207036.pdf?src-supplier=Avnet; ComponentLink5Description: https://datasheet.ciiva.com/14207/tps3808g01-14207036.pdf?src-supplier=Avnet; ComponentLink6URL: https://datasheet.ciiva.com/14207/tps3808g01-14207037.pdf?src-supplier=Avnet; ComponentLink6Description: https://datasheet.ciiva.com/14207/tps3808g01-14207037.pdf?src-supplier=Avnet; ComponentLink7URL: https://datasheet.ciiva.com/22710/1862365-22710237.pdf?src-supplier=Element14; ComponentLink7Description: https://datasheet.ciiva.com/22710/1862365-22710237.pdf?src-supplier=Element14; ComponentLink8URL: https://datasheet.ciiva.com/28656/1882049-28656687.pdf?src-supplier=Element14; ComponentLink8Description: https://datasheet.ciiva.com/28656/1882049-28656687.pdf?src-supplier=Element14; Supplier Part Number 1: 296-32475-1-ND
footprint SOT236
pins: 1 ~{RESET}, 2 GND, 3 ~{MR} (in), 4 CT, 5 SENSE (in), 6 V+

## TPS22975DSGR
designator U?
IC LOAD SWITCH N-CH 6A 8WSON Power Switch/Driver 1:1 N-Channel 6A 8-WSON (2x2); Manufacturer 1: Texas Instruments; Number of Channels: 1; RoHS: Yes; Min Operating Temperature: -40°C; Max Operating Temperature: 105°C; Lead Free: Lead Free; ComponentLink1URL: http://www.ti.com/lit/ds/symlink/tps22975.pdf?src-supplier=Digi-Key; ComponentLink1Description: http://www.ti.com/lit/ds/symlink/tps22975.pdf?src-supplier=Digi-Key; Supplier 1: Digi-Key; Manufacturer Part Number 1: TPS22975DSGR; Stock 1: 7314; Pricing 1: 1=0.58000, 10=0.51000, 100=0.39090, 500=0.30900, 1000=0.24720 (USD); Supplier Part Number 1: 296-47228-1-ND
footprint TPS22975DSGR WSON (SON, 8-Leads, Body 2.00x2.00mm, Pitch 0.50mm, Thermal Pad 1.60x0.69mm, IPC High Density)
pins: 1 VIN, 2 VIN, 3 ON, 4 VIBAS, 5 VOUT, 6 VOUT, 7 CT, 8 GND, 9 PAD

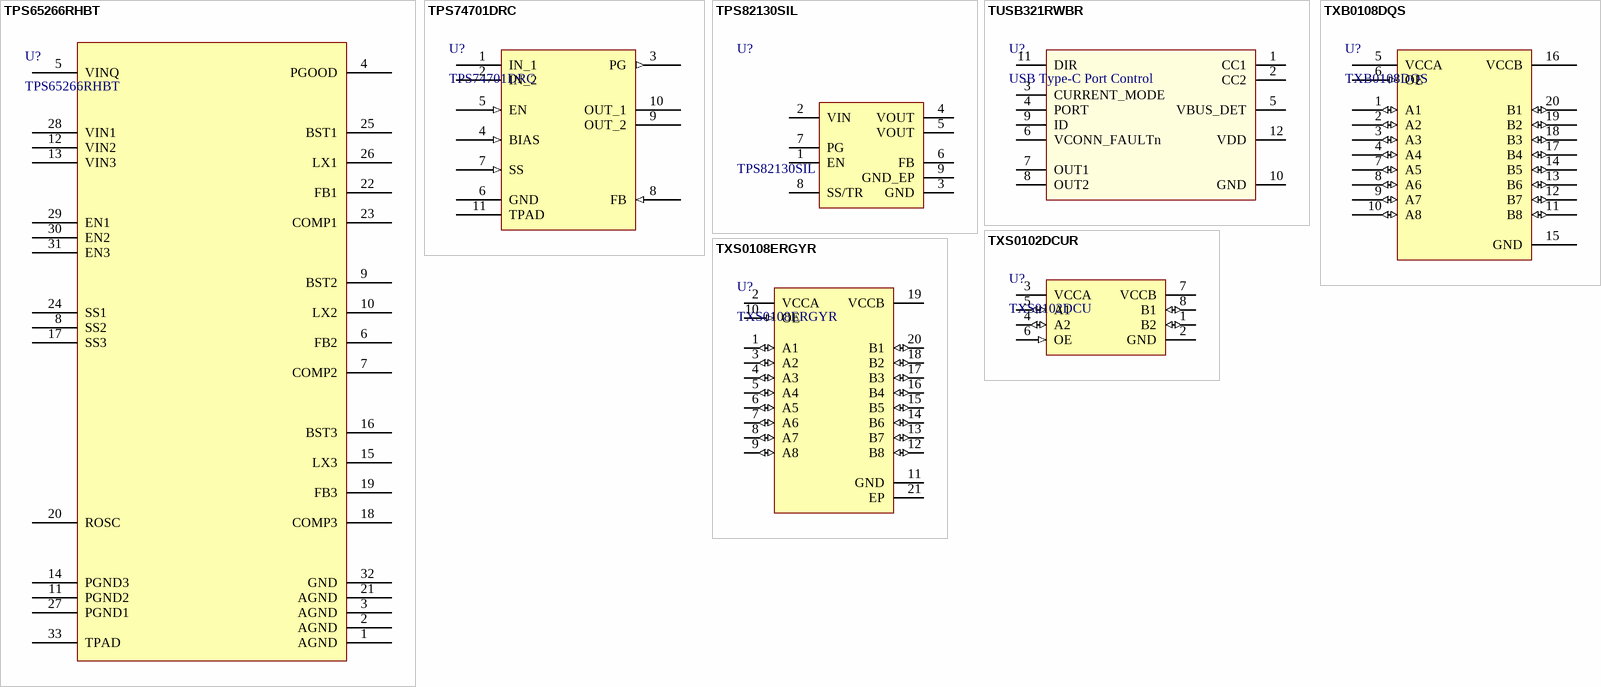
[diagram p7: symbols TPS65266RHBT to TXS0108ERGYR]

## TPS65266RHBT
designator U?
IC REG BCK ADJ 3A/2A TRPL 32VQFN Buck Switching Regulator IC Positive Adjustable 0.6V 3 Output 3A, 2A 32-VFQFN Exposed Pad; Manufacturer: TI; Manufacturer 1: Texas Instruments; Switching Frequency: 2.4MHz; Number of Outputs: 3; Min Input Voltage: 2.7V; Max Input Voltage: 6.5V; Min Output Voltage: 600mV; Synchronous Rectifier: Yes; Quiescent Current: 340uA; Manufacturer PN: TPS65266; Package: 32-VQFN; Supplier 1: Digi-Key; Manufacturer Part Number 1: TPS65266RHBT; Stock 1: 4557; Pricing 1: 1=4.01000, 10=3.59900, 100=2.94850 (USD); RoHS: Yes; Mount: Surface Mount; Case/Package: VQFN; Number of Pins: 32; Weight: 0.002547oz; Min Operating Temperature: -40°C; Max Operating Temperature: 85°C; Packaging: Tape and Reel; Output Current: 2A; Package Quantity: 250; Max Output Voltage: 6.5V; Operating Supply Voltage: 6.5V; Output Type: Adjustable; Output Configuration: Positive; Current - Output 1: 3A; Current - Output 2: 2A; Lead Free: Lead Free; REACH SVHC: No SVHC; ComponentLink1URL: http://www.ti.com/general/docs/lit/getliterature.tsp?genericPartNumber=TPS65266&&fileType=pdf&src-supplier=Element14; ComponentLink1Description: http://www.ti.com/general/docs/lit/getliterature.tsp?genericPartNumber=TPS65266&&fileType=pdf&src-supplier=Element14; ComponentLink2URL: http://www.ti.com/general/docs/lit/getliterature.tsp?genericPartNumber=TPS65266&amp;&amp;fileType=pdf&src-supplier=Farnell; ComponentLink2Description: http://www.ti.com/general/docs/lit/getliterature.tsp?genericPartNumber=TPS65266&amp;&amp;fileType=pdf&src-supplier=Farnell; ComponentLink3URL: http://www.ti.com/general/docs/lit/getliterature.tsp?genericPartNumber=TPS65266&&fileType=pdf&src-supplier=Farnell; ComponentLink3Description: http://www.ti.com/general/docs/lit/getliterature.tsp?genericPartNumber=TPS65266&&fileType=pdf&src-supplier=Farnell; ComponentLink4URL: http://www.ti.com/lit/ds/symlink/tps65266.pdf?src-supplier=Digi-Key; ComponentLink4Description: http://www.ti.com/lit/ds/symlink/tps65266.pdf?src-supplier=Digi-Key; ComponentLink5URL: http://www.ti.com/lit/gpn/tps65266?src-supplier=Mouser; ComponentLink5Description: http://www.ti.com/lit/gpn/tps65266?src-supplier=Mouser; ComponentLink6URL: http://www.ti.com/general/docs/lit/getliterature.tsp?genericPartNumber=TPS65266&&fileType=pdf&src-supplier=Avnet; ComponentLink6Description: http://www.ti.com/general/docs/lit/getliterature.tsp?genericPartNumber=TPS65266&&fileType=pdf&src-supplier=Avnet; Supplier Part Number 1: 296-38685-1-ND; Supplier 2: TI store; Supplier 3: Mouser; Supplier Part Number 2: TPS65266RHBT; Supplier Part Number 3: 595-TPS65266RHBT
footprint TPS65266RHBT (QFN, 32-Leads, Body 5.00x5.00mm, Pitch 0.50mm, Thermal Pad 3.45x3.45mm, IPC Medium Density)
pins: 1 AGND, 2 AGND, 3 AGND, 4 PGOOD, 5 VINQ, 6 FB2, 7 COMP2, 8 SS2, 9 BST2, 10 LX2, 11 PGND2, 12 VIN2, 13 VIN3, 14 PGND3, 15 LX3, 16 BST3, 17 SS3, 18 COMP3, 19 FB3, 20 ROSC, 21 AGND, 22 FB1, 23 COMP1, 24 SS1, 25 BST1, 26 LX1, 27 PGND1, 28 VIN1, 29 EN1, 30 EN2, 31 EN3, 32 GND, 33 TPAD "Thermal Pad"

## TPS74701DRC
designator U?
IC REG LIN POS ADJ 500MA 10VSON Linear Voltage Regulator IC  1 Output  500mA 10-VSON (3x3); Manufacturer: Texas Instruments; Manufacturer Part Number: TPS74701DRCT; Output Voltage: 3.6V; Number of Outputs: 1; Max Input Voltage: 5.5V; Min Input Voltage: 800mV; Polarity: Positive; Dropout Voltage: 50mV; Max Power Dissipation: 1.92W; Min Current Limit: 800mA; Accuracy: 2%; Output Voltage Accuracy: 0.5%; Quiescent Current: 1mA; Output Type: Adjustable; Reference Voltage: 804mV; RoHS: Yes; Number of Pins: 10; Contact Plating: Gold; Min Operating Temperature: -40°C; Max Operating Temperature: 125°C; Package Quantity: 1; Output Current: 500mA; Packaging: Tape and Reel; Max Output Current: 500mA; Number of Regulators: 1; Min Output Voltage: 800mV; Max Output Voltage: 3.6V; Power Dissipation: 1.92W; Length: 3mm; Height: 0.9mm; Width: 3mm; Radiation Hardening: No; Lead Free: Lead Free; REACH SVHC: No SVHC; ComponentLink1URL: https://datasheet.ciiva.com/4885/sbvs099f-203576-4885600.pdf?src-supplier=Mouser; ComponentLink1Description: https://datasheet.ciiva.com/4885/sbvs099f-203576-4885600.pdf?src-supplier=Mouser; ComponentLink2URL: https://datasheet.ciiva.com/3224/tps74701-3224385.pdf?src-supplier=Avnet; ComponentLink2Description: https://datasheet.ciiva.com/3224/tps74701-3224385.pdf?src-supplier=Avnet; ComponentLink3URL: https://datasheet.ciiva.com/7993/1511599-7993082.pdf?src-supplier=Element14; ComponentLink3Description: https://datasheet.ciiva.com/7993/1511599-7993082.pdf?src-supplier=Element14; ComponentLink4URL: https://datasheet.ciiva.com/26908/tps74701drct-26908510.pdf?src-supplier=IIIC; ComponentLink4Description: https://datasheet.ciiva.com/26908/tps74701drct-26908510.pdf?src-supplier=IIIC; ComponentLink5URL: https://datasheet.ciiva.com/2045/tps74701-2045525.pdf?src-supplier=Digi-Key; ComponentLink5Description: https://datasheet.ciiva.com/2045/tps74701-2045525.pdf?src-supplier=Digi-Key; ComponentLink6URL: https://datasheet.ciiva.com/2045/tps74701-2045526.pdf?src-supplier=Digi-Key; ComponentLink6Description: https://datasheet.ciiva.com/2045/tps74701-2045526.pdf?src-supplier=Digi-Key; ComponentLink7URL: https://datasheet.ciiva.com/2045/tps74701-2045527.pdf?src-supplier=Digi-Key; ComponentLink7Description: https://datasheet.ciiva.com/2045/tps74701-2045527.pdf?src-supplier=Digi-Key; ComponentLink8URL: https://datasheet.ciiva.com/26175/sbvs099f-26175991.pdf?src-supplier=Avnet+Europe; ComponentLink8Description: https://datasheet.ciiva.com/26175/sbvs099f-26175991.pdf?src-supplier=Avnet+Europe; ComponentLink9URL: https://datasheet.ciiva.com/46397/1854720-46397511.pdf?src-supplier=Element14; ComponentLink9Description: https://datasheet.ciiva.com/46397/1854720-46397511.pdf?src-supplier=Element14; ComponentLink10URL: https://datasheet.ciiva.com/7993/1511599-7993083.pdf?src-supplier=Element14; ComponentLink10Description: https://datasheet.ciiva.com/7993/1511599-7993083.pdf?src-supplier=Element14; Supplier 1: Digi-Key; Manufacturer 1: Texas Instruments; Manufacturer Part Number 1: TPS74701DRCT; Stock 1: 3963; Pricing 1: 1=2.46000, 10=2.21100, 100=1.77710 (USD); Supplier Part Number 1: 296-27071-1-ND
footprint TPS74701DRC (SON, 10-Leads, Body 3x3mm, Pitch 0.5mm, Thermal Pad 2.4x1.65mm, TI Recommended)
pins: 1 IN_1 (power), 2 IN_2 (power), 3 PG (out), 4 BIAS (in), 5 EN (in), 6 GND (power), 7 SS (in), 8 FB (in), 9 OUT_2 (power), 10 OUT_1 (power), 11 TPAD (power)

## TPS82130SIL
designator U?
DC DC CONVERTER 0.9-5V; Manufacturer 1: Texas Instruments; Manufacturer Part Number 1: TPS82130SILR; Number of Outputs: 1; Min Input Voltage: 3V; Max Input Voltage: 17V; Voltage - Output 1: 5V; Max Output Current: 3A; Quiescent Current: 20uA; Supplier 1: Mouser; RoHS: Yes; Category: Voltage Regulators - Switching; Stock 1: 83975; Pricing 1: 1=3.82000, 10=3.43000, 100=2.81000, 250=2.64000, 500=2.39000, 1000=2.02000 (USD); Mount: Surface Mount; Case/Package: SMD/SMT; Min Operating Temperature: -40°C; Max Operating Temperature: 125°C; Packaging: Tape and Reel; Features: OTP; Length: 0.12inch; Height: 0.06inch; Width: 0.11inch; Lead Free: Lead Free; ComponentLink1URL: http://www.ti.com/lit/ds/symlink/tps82130.pdf?src-supplier=Digi-Key; ComponentLink1Description: http://www.ti.com/lit/ds/symlink/tps82130.pdf?src-supplier=Digi-Key; ComponentLink2URL: http://www.ti.com/lit/ds/symlink/tps82130.pdf?src-supplier=Newark; ComponentLink2Description: http://www.ti.com/lit/ds/symlink/tps82130.pdf?src-supplier=Newark; ComponentLink3URL: http://www.ti.com/lit/gpn/tps82130?src-supplier=Mouser; ComponentLink3Description: http://www.ti.com/lit/gpn/tps82130?src-supplier=Mouser; Supplier 2: Newark; Supplier Part Number 1: 595-TPS82130SILR; Supplier Part Number 2: 33AH5407; Supplier 3: Digi-Key; Supplier Part Number 3: 296-43922-1-ND
footprint TPS82130SIL (Non-Isolated PoL Module DC DC Converter 1 Output 0.9 ~ 5V    3A 3V - 17V Input)
pins: 1 EN, 2 VIN, 3 GND, 4 VOUT, 5 VOUT, 6 FB, 7 PG, 8 SS/TR, 9 GND_EP

## TUSB321RWBR
designator U?, comment USB Type-C Port Control
IC USB PORT CONTROL TYPE-C 12X2Q; Manufacturer 1: Texas Instruments; Manufacturer Part Number 1: TUSB321RWBR; Min Supply Voltage: 4.5V; Max Supply Voltage: 5.5V; Number of Ports: 1; USB Standard: USB 3.1; Supplier 1: Digi-Key; Stock 1: 7746; Pricing 1: 1=2.27000, 10=2.04200, 100=1.64100, 500=1.34828, 1000=1.11714 (USD); RoHS: Yes; Mount: Surface Mount; Number of Pins: 12; Contact Plating: Gold; Min Operating Temperature: 0°C; Max Operating Temperature: 70°C; Packaging: Tape and Reel; REACH SVHC: No SVHC; Lead Free: Lead Free; ComponentLink1URL: http://www.ti.com/general/docs/lit/getliterature.tsp?genericPartNumber=TUSB321&&fileType=pdf&src-supplier=Avnet+Asia; ComponentLink1Description: http://www.ti.com/general/docs/lit/getliterature.tsp?genericPartNumber=TUSB321&&fileType=pdf&src-supplier=Avnet+Asia; ComponentLink2URL: http://www.ti.com/general/docs/lit/getliterature.tsp?genericPartNumber=TUSB321&&fileType=pdf&src-supplier=Farnell; ComponentLink2Description: http://www.ti.com/general/docs/lit/getliterature.tsp?genericPartNumber=TUSB321&&fileType=pdf&src-supplier=Farnell; ComponentLink3URL: http://www.ti.com/lit/ds/symlink/tusb321.pdf?src-supplier=Digi-Key; ComponentLink3Description: http://www.ti.com/lit/ds/symlink/tusb321.pdf?src-supplier=Digi-Key; ComponentLink4URL: http://www.ti.com/general/docs/lit/getliterature.tsp?genericPartNumber=TUSB321&&fileType=pdf&src-supplier=Element14; ComponentLink4Description: http://www.ti.com/general/docs/lit/getliterature.tsp?genericPartNumber=TUSB321&&fileType=pdf&src-supplier=Element14; ComponentLink5URL: http://www.ti.com/general/docs/lit/getliterature.tsp?genericPartNumber=TUSB321&&fileType=pdf&src-supplier=Avnet; ComponentLink5Description: http://www.ti.com/general/docs/lit/getliterature.tsp?genericPartNumber=TUSB321&&fileType=pdf&src-supplier=Avnet; Supplier Part Number 1: 296-42400-1-ND
footprint TUSB321RWBR (X2QFN-12 1.6x1.6)
pins: 1 CC1, 2 CC2, 3 CURRENT_MODE, 4 PORT, 5 VBUS_DET, 6 VCONN_FAULTn, 7 OUT1, 8 OUT2, 9 ID, 10 GND, 11 DIR, 12 VDD

## TXB0108DQS
designator U?
IC TRNSLTR BIDIRECTIONAL 20USON; Manufacturer 1: Texas Instruments; Manufacturer Part Number 1: TXB0108DQSR; Max Supply Voltage: 5.5V; Min Supply Voltage: 1.2V; Propagation Delay: 4ns; Number of Inputs: 8; Data Rate: 100Mbps; Logic Function: Translator; High Level Output Current: -20uA; Low Level Output Current: 20uA; Quiescent Current: 3.5uA; Turn-On Delay Time: 35.6ns; Supplier 1: Digi-Key; Stock 1: 8859; Pricing 1: 1=1.55000, 10=1.39200, 100=1.11890, 500=0.91928, 1000=0.76169 (USD); RoHS: Yes; Mount: Surface Mount; Number of Pins: 20; Min Operating Temperature: -40°C; Max Operating Temperature: 85°C; Packaging: Tape and Reel; Package Quantity: 1; Number of Channels: 8; Number of Bits: 8; Radiation Hardening: No; REACH SVHC: No SVHC; Lead Free: Lead Free; ComponentLink1URL: https://datasheet.ciiva.com/22714/1811182-22714743.pdf?src-supplier=Element14; ComponentLink1Description: https://datasheet.ciiva.com/22714/1811182-22714743.pdf?src-supplier=Element14; ComponentLink2URL: https://datasheet.ciiva.com/1899/txb0108-1899800.pdf?src-supplier=Digi-Key; ComponentLink2Description: https://datasheet.ciiva.com/1899/txb0108-1899800.pdf?src-supplier=Digi-Key; ComponentLink3URL: https://datasheet.ciiva.com/1899/txb0108-1899801.pdf?src-supplier=Digi-Key; ComponentLink3Description: https://datasheet.ciiva.com/1899/txb0108-1899801.pdf?src-supplier=Digi-Key; ComponentLink4URL: https://datasheet.ciiva.com/1899/txb0108-1899802.pdf?src-supplier=Digi-Key; ComponentLink4Description: https://datasheet.ciiva.com/1899/txb0108-1899802.pdf?src-supplier=Digi-Key; ComponentLink5URL: https://datasheet.ciiva.com/26039/txb0108-26039546.pdf?src-supplier=Avnet+Europe; ComponentLink5Description: https://datasheet.ciiva.com/26039/txb0108-26039546.pdf?src-supplier=Avnet+Europe; ComponentLink6URL: https://datasheet.ciiva.com/14287/txb0108-14287887.pdf?src-supplier=Avnet; ComponentLink6Description: https://datasheet.ciiva.com/14287/txb0108-14287887.pdf?src-supplier=Avnet; Supplier 2: TI store; Supplier 3: Mouser; Supplier Part Number 1: 296-27217-1-ND; Supplier Part Number 2: TXB0108DQSR; Supplier Part Number 3: 595-TXB0108DQSR
footprint TXB0108DQSR (SON, 20-Leads, Body 4.00x2.00mm, Pitch 0.40mm, IPC High Density)
pins: 1 A1 (io), 2 A2 (io), 3 A3 (io), 4 A4 (io), 5 VCCA (power), 6 OE (in), 7 A5 (io), 8 A6 (io), 9 A7 (io), 10 A8 (io), 11 B8 (io), 12 B7 (io), 13 B6 (io), 14 B5 (io), 15 GND (power), 16 VCCB (power), 17 B4 (io), 18 B3 (io), 19 B2 (io), 20 B1 (io)